# Altium footprint library 4_1775099_0.PcbLib: 1 footprints
Each footprint in its own frame and in the unit in brackets; x right, y up, seen from the top. Pads: shape width x height; smd on the part's side, far side on the other; paste and mask are expansions set on the pad; w line width, h text height; cw(c..) or ccw(c..) is an arc to the next point about the centre after c.
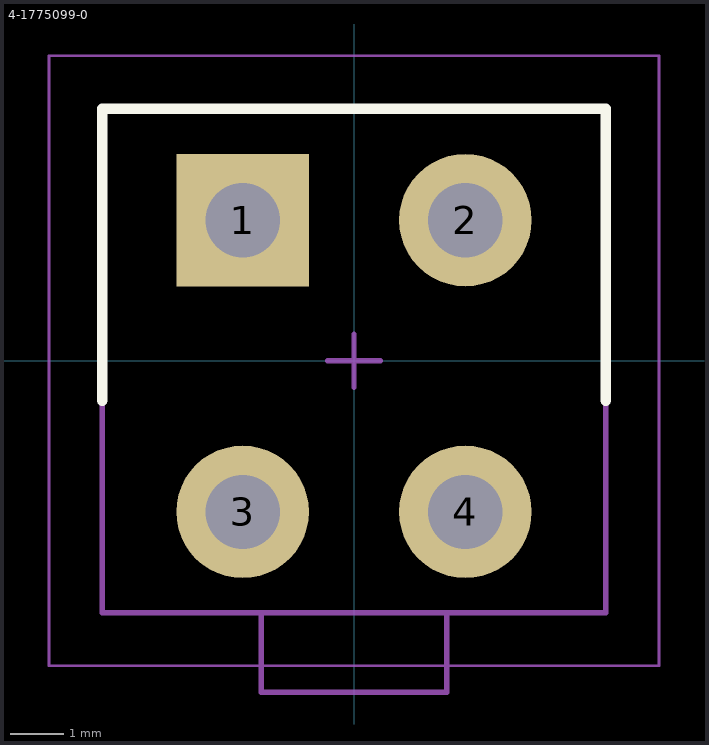
[diagram p0: the footprint, top view; thin cyan lines are the x and y axes]

## 4-1775099-0 [mm] "ATX Power 4 Pins Mount Header, V/A Type"
height 12.8
pads (4):
  rect 2.5x2.5 hole 1.4: 1(-2.1,2.65)
  round 2.5 hole 1.4: 2(2.1,2.65) 3(-2.1,-2.85) 4(2.1,-2.85)
Top Overlay:
  lines w0.2: -4.75,-0.75 -4.75,4.75 4.75,4.75 4.75,-0.75
Top Comment:
  text ".Comment" at 1.25,6 h1.2
Top Designator:
  text ".Designator" at -0.25,6 h1.2
Top Component Outline:
  lines w0.1: -1.75,-4.75 -1.75,-6.25 1.75,-6.25 1.75,-4.75 ; -4.75,-4.75 4.75,-4.75 4.75,4.75 -4.75,4.75 -4.75,-4.75
Top Courtyard (Mech15):
  lines w0.05: -5.75,-5.75 5.75,-5.75 5.75,5.75 -5.75,5.75 -5.75,-5.75
  lines w0.1: -0.5,0 0.5,0 ; 0,-0.5 0,0.5
3D body "c-4-1775099-0-e-3d.stp": height 12.8, standoff -3.2, extent -5.1,-6.1 4.75,4.8